# Altium integrated library CONNECTOR - DSUB.IntLib: 1 symbol
Pins are listed as number, name and electrical type; pins without a type are passive.

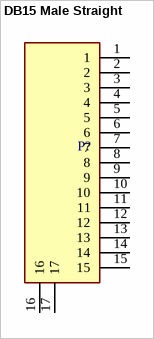
[diagram p0: symbol DB15 Male Straight]

## DB15 Male Straight
designator P?  (value not drawn)
footprint TE-1-338310-2
pins: 1, 2, 3, 4, 5, 6, 7, 8, 9, 10, 11, 12, 13, 14, 15, 16, 17